# EAGLE library part JST_S7B-PH-K-S (library DMF-Additional_Supply_dmf)
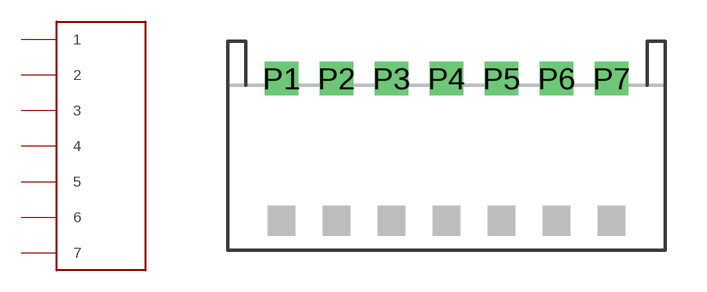
[diagram p1: symbol with the pads of JST_S7B-PH-K-S; footprint JST_S7B-PH-K-S]

Designator prefix J

## JST_S7B-PH-K-S  [JST_S7B-PH-K-S]
P1  1
P2  2
P3  3
P4  4
P5  5
P6  6
P7  7

## Footprint JST_S7B-PH-K-S (pad centres in mm)
drill 0.7 square: P1 1.96,6.24; P2 3.96,6.24; P3 5.96,6.24; P4 7.96,6.24; P5 9.96,6.24; P6 11.96,6.24; P7 13.96,6.24